# Altium footprint library CP_RADIAL_D6.3_P2.5_H12.5.PcbLib: 1 footprints
Each footprint in its own frame and in the unit in brackets; x right, y up, seen from the top. Pads: shape width x height; smd on the part's side, far side on the other; paste and mask are expansions set on the pad; w line width, h text height; cw(c..) or ccw(c..) is an arc to the next point about the centre after c.
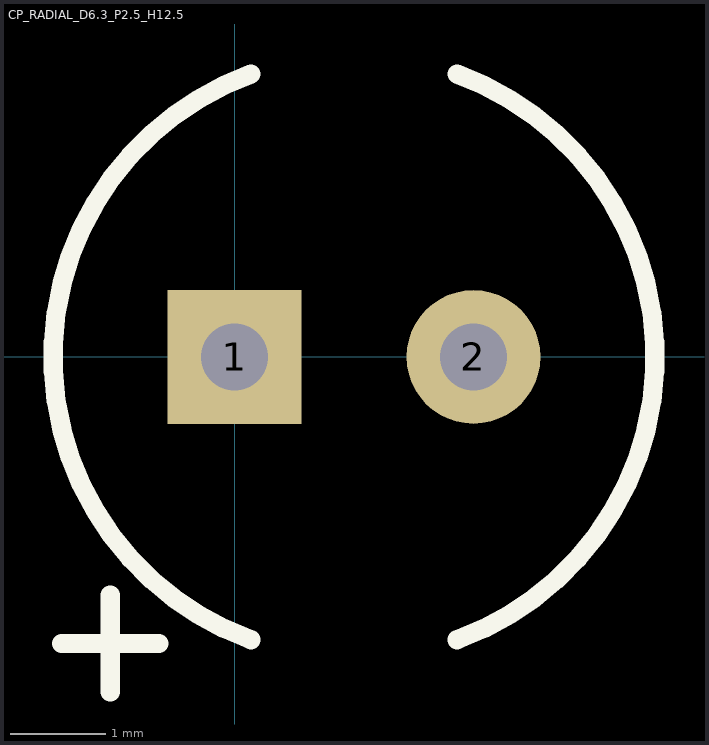
[diagram p0: the footprint, top view; thin cyan lines are the x and y axes]

## CP_RADIAL_D6.3_P2.5_H12.5 [mm] "Radial Cap, 2.5mm spacing, 6.3mm diameter, 12.5mm height"
height 20
pads (2):
  rect 1.4x1.4 hole 0.7: 1(0,0)
  round 1.4 hole 0.7: 2(2.5,0)
Top Overlay:
  lines w0.2: -1.808,-3 -0.792,-3 ; -1.3,-3.508 -1.3,-2.492 ; 0.173,-2.96 cw(c1.25,0) 0.173,2.96 ; 2.327,-2.96 ccw(c1.25,0) 2.327,2.96
3D body: height 12.5, standoff 0, extent -1.9,-3.147 4.4,3.147